# EAGLE library part PAM2423 (library _mtvl.power)
PAM2421/ PAM2422/ PAM2423 3A, 4.5A, 5.5A PWM STEP-UP DC-DC CONVERTER https://www.diodes.com/assets/Datasheets/PAM2421_22_23.pdf
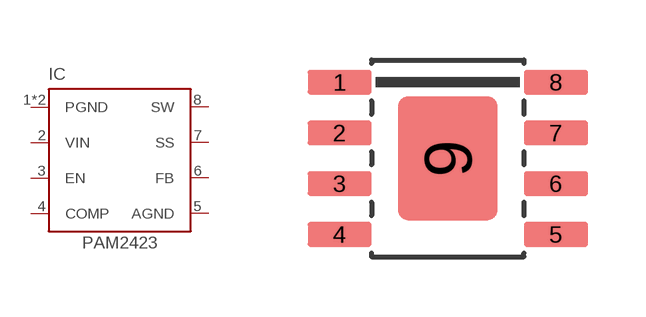
[diagram p14: symbol with the pads of SOIC8N; footprint SOIC8N]

Designator prefix IC

## PAM2423  [SOIC8N]
1  PGND
2  VIN
3  EN
4  COMP
5  AGND
6  FB
7  SS
8  SW
9  PGND

## Footprint SOIC8N (pad centres in mm)
Small Outline IC with Power Pad
smd 1.6 x 0.61: 1 -2.705,1.905; 2 -2.705,0.635; 3 -2.705,-0.635; 4 -2.705,-1.905; 5 2.705,-1.905; 6 2.705,-0.635; 7 2.705,0.635; 8 2.705,1.905
smd 2.49 x 3.1: 9 0,0